# Altium integrated library WE-CNSW SMD Common Mode Line Filter.IntLib: 23 symbols
Pins are listed as number, name and electrical type; pins without a type are passive.

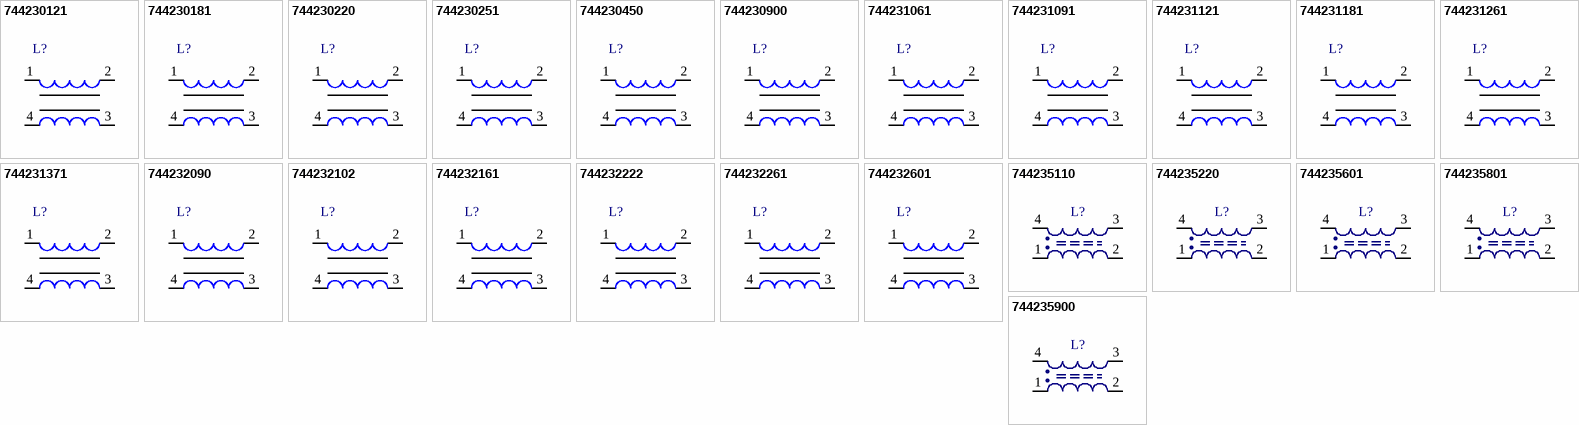
[diagram p0: symbols 744230121 to 744235900]

## 744230121
designator L?
SMD Common Mode Noise Suppressor WE-CNSW,  Z= 120 Ohm; PartNumber: 744230121; Impedance: 90 Ohm; PackageReference: WE-CNSW, 0603; ComponentLink1Description: Manufacturer URL; ComponentLink1URL: http://www.we-online.com; ComponentLink2Description: Datasheet; ComponentLink2URL: http://www.we-online.de/katalog/media/pdf/744230121.pdf
footprint WE-CNSW, 0603 (SMD Inductor, 4-Leads, Body 0.85x1.6mm)
pins: 1, 2, 3, 4

## 744230181
designator L?
SMD Common Mode Noise Suppressor WE-CNSW,  Z= 180 Ohm; PartNumber: 744230181; Impedance: 180 Ohm; PackageReference: WE-CNSW, 0603; ComponentLink1Description: Manufacturer URL; ComponentLink1URL: http://www.we-online.com; ComponentLink2Description: Datasheet; ComponentLink2URL: http://www.we-online.de/katalog/media/pdf/744230181.pdf
footprint WE-CNSW, 0603 (SMD Inductor, 4-Leads, Body 0.85x1.6mm)
pins: 1, 2, 3, 4

## 744230220
designator L?
SMD Common Mode Noise Suppressor WE-CNSW,  Z= 22 Ohm; PartNumber: 744230220; Impedance: 22 Ohm; PackageReference: WE-CNSW, 0603; ComponentLink1Description: Manufacturer URL; ComponentLink1URL: http://www.we-online.com; ComponentLink2Description: Datasheet; ComponentLink2URL: http://www.we-online.de/katalog/media/pdf/744230220.pdf
footprint WE-CNSW, 0603 (SMD Inductor, 4-Leads, Body 0.85x1.6mm)
pins: 1, 2, 3, 4

## 744230251
designator L?
SMD Common Mode Noise Suppressor WE-CNSW,  Z= 250 Ohm; PartNumber: 744230251; Impedance: 250 Ohm; PackageReference: WE-CNSW, 0603; ComponentLink1Description: Manufacturer URL; ComponentLink1URL: http://www.we-online.com; ComponentLink2Description: Datasheet; ComponentLink2URL: http://www.we-online.de/katalog/media/pdf/744230251.pdf
footprint WE-CNSW, 0603 (SMD Inductor, 4-Leads, Body 0.85x1.6mm)
pins: 1, 2, 3, 4

## 744230450
designator L?
SMD Common Mode Noise Suppressor WE-CNSW,  Z= 45 Ohm; PartNumber: 744230450; Impedance: 45 Ohm; PackageReference: WE-CNSW, 0603; ComponentLink1Description: Manufacturer URL; ComponentLink1URL: http://www.we-online.com; ComponentLink2Description: Datasheet; ComponentLink2URL: http://www.we-online.de/katalog/media/pdf/744230450.pdf
footprint WE-CNSW, 0603 (SMD Inductor, 4-Leads, Body 0.85x1.6mm)
pins: 1, 2, 3, 4

## 744230900
designator L?
SMD Common Mode Noise Suppressor WE-CNSW,  Z= 90 Ohm; PartNumber: 744230900; Impedance: 90 Ohm; PackageReference: WE-CNSW, 0603; ComponentLink1Description: Manufacturer URL; ComponentLink1URL: http://www.we-online.com; ComponentLink2Description: Datasheet; ComponentLink2URL: http://www.we-online.de/katalog/media/pdf/744230900.pdf
footprint WE-CNSW, 0603 (SMD Inductor, 4-Leads, Body 0.85x1.6mm)
pins: 1, 2, 3, 4

## 744231061
designator L?
SMD Common Mode Noise Suppressor WE-CNSW, Z = 67 Ohm; PartNumber: 744231061; Impedance: 67 Ohm; DatasheetVersion: ver 4, Nov-2010; PackageReference: WE-CNSW-0805; PackageDescription: SMD Inductor, 4-Leads, Body 1.4 x 2.2 mm; ComponentLink1Description: Manufacturer URL; ComponentLink1URL: http://www.we-online.com; ComponentLink2Description: Datasheet; ComponentLink2URL: http://www.we-online.de/katalog/media/pdf/744231061.pdf; ComponentLink3Description: URL Link2; ComponentLink3URL: WE-CNSW, 1206; ComponentLink4Description: URL Link3; ComponentLink4URL: WE-CNSW, 1206.pcblib
footprint WE-CNSW-0805 (SMD Inductor, 4-Leads, Body 1.4x2.2x1.4 mm)
pins: 1, 2, 3, 4

## 744231091
designator L?
SMD Common Mode Noise Suppressor WE-CNSW, Z = 90 Ohm; PartNumber: 744231091; Impedance: 90 Ohm; DatasheetVersion: ver 4, Nov-2010; PackageReference: WE-CNSW-0805; PackageDescription: SMD Inductor, 4-Leads, Body 1.4 x 2.2 mm; ComponentLink1Description: Manufacturer URL; ComponentLink1URL: http://www.we-online.com; ComponentLink2Description: Datasheet; ComponentLink2URL: http://www.we-online.de/katalog/media/pdf/744231091.pdf; ComponentLink3Description: URL Link2; ComponentLink3URL: WE-CNSW, 1206; ComponentLink4Description: URL Link3; ComponentLink4URL: WE-CNSW, 1206.pcblib
footprint WE-CNSW-0805 (SMD Inductor, 4-Leads, Body 1.4x2.2x1.4 mm)
pins: 1, 2, 3, 4

## 744231121
designator L?
SMD Common Mode Noise Suppressor WE-CNSW, Z = 120 Ohm; PartNumber: 744231121; Impedance: 120 Ohm; DatasheetVersion: ver 4, Nov-2010; PackageReference: WE-CNSW-0805; PackageDescription: SMD Inductor, 4-Leads, Body 1.4 x 2.2 mm; ComponentLink1Description: Manufacturer URL; ComponentLink1URL: http://www.we-online.com; ComponentLink2Description: Datasheet; ComponentLink2URL: http://www.we-online.de/katalog/media/pdf/744231121.pdf; ComponentLink3Description: URL Link2; ComponentLink3URL: WE-CNSW, 1206; ComponentLink4Description: URL Link3; ComponentLink4URL: WE-CNSW, 1206.pcblib
footprint WE-CNSW-0805 (SMD Inductor, 4-Leads, Body 1.4x2.2x1.4 mm)
pins: 1, 2, 3, 4

## 744231181
designator L?
SMD Common Mode Noise Suppressor WE-CNSW, Z = 180 Ohm; PartNumber: 744231181; Impedance: 180 Ohm; DatasheetVersion: ver 4, Nov-2010; PackageReference: WE-CNSW-0805; PackageDescription: SMD Inductor, 4-Leads, Body 1.4 x 2.2 mm; ComponentLink1Description: Manufacturer URL; ComponentLink1URL: http://www.we-online.com; ComponentLink2Description: Datasheet; ComponentLink2URL: http://www.we-online.de/katalog/media/pdf/744231181.pdf; ComponentLink3Description: URL Link2; ComponentLink3URL: WE-CNSW, 1206; ComponentLink4Description: URL Link3; ComponentLink4URL: WE-CNSW, 1206.pcblib
footprint WE-CNSW-0805 (SMD Inductor, 4-Leads, Body 1.4x2.2x1.4 mm)
pins: 1, 2, 3, 4

## 744231261
designator L?
SMD Common Mode Noise Suppressor WE-CNSW, Z = 260 Ohm; PartNumber: 744231261; Impedance: 260 Ohm; DatasheetVersion: ver 4, Nov-2010; PackageReference: WE-CNSW-0805; PackageDescription: SMD Inductor, 4-Leads, Body 1.4 x 2.2 mm; ComponentLink1Description: Manufacturer URL; ComponentLink1URL: http://www.we-online.com; ComponentLink2Description: Datasheet; ComponentLink2URL: http://www.we-online.de/katalog/media/pdf/744231261.pdf; ComponentLink3Description: URL Link2; ComponentLink3URL: WE-CNSW, 1206; ComponentLink4Description: URL Link3; ComponentLink4URL: WE-CNSW, 1206.pcblib
footprint WE-CNSW-0805 (SMD Inductor, 4-Leads, Body 1.4x2.2x1.4 mm)
pins: 1, 2, 3, 4

## 744231371
designator L?
SMD Common Mode Noise Suppressor WE-CNSW, Z = 370 Ohm; PartNumber: 744231371; Impedance: 370 Ohm; DatasheetVersion: ver 4, Nov-2010; PackageReference: WE-CNSW-0805; PackageDescription: SMD Inductor, 4-Leads, Body 1.4 x 2.2 mm; ComponentLink1Description: Manufacturer URL; ComponentLink1URL: http://www.we-online.com; ComponentLink2Description: Datasheet; ComponentLink2URL: http://www.we-online.de/katalog/media/pdf/744231371.pdf; ComponentLink3Description: URL Link2; ComponentLink3URL: WE-CNSW, 1206; ComponentLink4Description: URL Link3; ComponentLink4URL: WE-CNSW, 1206.pcblib
footprint WE-CNSW-0805 (SMD Inductor, 4-Leads, Body 1.4x2.2x1.4 mm)
pins: 1, 2, 3, 4

## 744232090
designator L?
SMD Common Mode Noise Suppressor WE-CNSW, Z = 90 Ohm; PartNumber: 744232090; Impedance: 90 Ohm; DatasheetVersion: ver 3, Oct-2004; PackageReference: WE-CNSW-1206; PackageDescription: SMD Inductor, 4-Leads, Body 1.8 x 3.4 mm; ComponentLink1Description: Manufacturer URL; ComponentLink1URL: http://www.we-online.com; ComponentLink2Description: Datasheet; ComponentLink2URL: http://www.we-online.de/katalog/media/pdf/744232090.pdf; ComponentLink3Description: URL Link2; ComponentLink3URL: WE-CNSW, 0805; ComponentLink4Description: URL Link3; ComponentLink4URL: WE-CNSW, 0805.pcblib
footprint WE-CNSW-1206 (SMD Inductor, 4-Leads, Body 1.8x3.4x2.1 mm)
pins: 1, 2, 3, 4

## 744232102
designator L?
SMD Common Mode Noise Suppressor WE-CNSW, Z = 1000 Ohm; PartNumber: 744232102; DatasheetVersion: ver 3, Oct-2004; PackageReference: WE-CNSW-1206; PackageDescription: SMD Inductor, 4-Leads, Body 1.8 x 3.4 mm; Impedance: 1000 Ohm; ComponentLink1Description: Manufacturer URL; ComponentLink1URL: http://www.we-online.com; ComponentLink2Description: Datasheet; ComponentLink2URL: http://www.we-online.de/katalog/media/pdf/744232102.pdf; ComponentLink3Description: URL Link2; ComponentLink3URL: WE-CNSW, 0805; ComponentLink4Description: URL Link3; ComponentLink4URL: WE-CNSW, 0805.pcblib
footprint WE-CNSW-1206 (SMD Inductor, 4-Leads, Body 1.8x3.4x2.1 mm)
pins: 1, 2, 3, 4

## 744232161
designator L?
SMD Common Mode Noise Suppressor WE-CNSW, Z = 160 Ohm; PartNumber: 744232161; Impedance: 160 Ohm; DatasheetVersion: ver 3, Oct-2004; PackageReference: WE-CNSW-1206; PackageDescription: SMD Inductor, 4-Leads, Body 1.8 x 3.4 mm; ComponentLink1Description: Manufacturer URL; ComponentLink1URL: http://www.we-online.com; ComponentLink2Description: Datasheet; ComponentLink2URL: http://www.we-online.de/katalog/media/pdf/744232161.pdf; ComponentLink3Description: URL Link2; ComponentLink3URL: WE-CNSW, 0805; ComponentLink4Description: URL Link3; ComponentLink4URL: WE-CNSW, 0805.pcblib
footprint WE-CNSW-1206 (SMD Inductor, 4-Leads, Body 1.8x3.4x2.1 mm)
pins: 1, 2, 3, 4

## 744232222
designator L?
SMD Common Mode Noise Suppressor WE-CNSW, Z = 2200 Ohm; PartNumber: 744232222; DatasheetVersion: ver 3, Oct-2004; PackageReference: WE-CNSW-1206; PackageDescription: SMD Inductor, 4-Leads, Body 1.8 x 3.4 mm; Impedance: 2200 Ohm; ComponentLink1Description: Manufacturer URL; ComponentLink1URL: http://www.we-online.com; ComponentLink2Description: Datasheet; ComponentLink2URL: http://www.we-online.de/katalog/media/pdf/744232222.pdf; ComponentLink3Description: URL Link2; ComponentLink3URL: WE-CNSW, 0805; ComponentLink4Description: URL Link3; ComponentLink4URL: WE-CNSW, 0805.pcblib
footprint WE-CNSW-1206 (SMD Inductor, 4-Leads, Body 1.8x3.4x2.1 mm)
pins: 1, 2, 3, 4

## 744232261
designator L?
SMD Common Mode Noise Suppressor WE-CNSW, Z = 260 Ohm; PartNumber: 744232261; Impedance: 260 Ohm; DatasheetVersion: ver 3, Oct-2004; PackageReference: WE-CNSW-1206; PackageDescription: SMD Inductor, 4-Leads, Body 1.8 x 3.4 mm; ComponentLink1Description: Manufacturer URL; ComponentLink1URL: http://www.we-online.com; ComponentLink2Description: Datasheet; ComponentLink2URL: http://www.we-online.de/katalog/media/pdf/744232261.pdf; ComponentLink3Description: URL Link2; ComponentLink3URL: WE-CNSW, 0805; ComponentLink4Description: URL Link3; ComponentLink4URL: WE-CNSW, 0805.pcblib
footprint WE-CNSW-1206 (SMD Inductor, 4-Leads, Body 1.8x3.4x2.1 mm)
pins: 1, 2, 3, 4

## 744232601
designator L?
SMD Common Mode Noise Suppressor WE-CNSW, Z = 600 Ohm; PartNumber: 744232601; Impedance: 600 Ohm; DatasheetVersion: ver 3, Oct-2004; PackageReference: WE-CNSW-1206; PackageDescription: SMD Inductor, 4-Leads, Body 1.8 x 3.4 mm; ComponentLink1Description: Manufacturer URL; ComponentLink1URL: http://www.we-online.com; ComponentLink2Description: Datasheet; ComponentLink2URL: http://www.we-online.de/katalog/media/pdf/744232601.pdf; ComponentLink3Description: URL Link2; ComponentLink3URL: WE-CNSW, 0805; ComponentLink4Description: URL Link3; ComponentLink4URL: WE-CNSW, 0805.pcblib
footprint WE-CNSW-1206 (SMD Inductor, 4-Leads, Body 1.8x3.4x2.1 mm)
pins: 1, 2, 3, 4

## 744235110
designator L?
SMD Shielded Coupled Inductor WE-CNSW, Z=5000 Ohm; PartNumber: 744235110; PackageReference: WE-CNSW 1812; Impedance: 5000 Ohm; ComponentLink1Description: Manufacturer URL; ComponentLink1URL: http://www.we-online.com; ComponentLink2Description: Datasheet; ComponentLink2URL: http://katalog.we-online.de/pbs/datasheet/744235110.pdf
footprint WE-CNSW 1812 (SMD Line Filter, 4-Leads, Body 4.5x3.2mm)
pins: 1, 2, 3, 4

## 744235220
designator L?
SMD Shielded Coupled Inductor WE-CNSW, Z=8000 Ohm; PartNumber: 744235220; PackageReference: WE-CNSW 1812; Impedance: 8000 Ohm; ComponentLink1Description: Manufacturer URL; ComponentLink1URL: http://www.we-online.com; ComponentLink2Description: Datasheet; ComponentLink2URL: http://katalog.we-online.de/pbs/datasheet/744235220.pdf
footprint WE-CNSW 1812 (SMD Line Filter, 4-Leads, Body 4.5x3.2mm)
pins: 1, 2, 3, 4

## 744235601
designator L?
SMD Shielded Coupled Inductor WE-CNSW, Z=600 Ohm; PartNumber: 744235601; Impedance: 600 Ohm; PackageReference: WE-CNSW 1812; ComponentLink1Description: Manufacturer URL; ComponentLink1URL: http://www.we-online.com; ComponentLink2Description: Datasheet; ComponentLink2URL: http://katalog.we-online.de/pbs/datasheet/744235601.pdf
footprint WE-CNSW 1812 (SMD Line Filter, 4-Leads, Body 4.5x3.2mm)
pins: 1, 2, 3, 4

## 744235801
designator L?
SMD Shielded Coupled Inductor WE-CNSW, Z=800 Ohm; PartNumber: 744235801; Impedance: 800 Ohm; PackageReference: WE-CNSW 1812; ComponentLink1Description: Manufacturer URL; ComponentLink1URL: http://www.we-online.com; ComponentLink2Description: Datasheet; ComponentLink2URL: http://katalog.we-online.de/pbs/datasheet/744235801.pdf
footprint WE-CNSW 1812 (SMD Line Filter, 4-Leads, Body 4.5x3.2mm)
pins: 1, 2, 3, 4

## 744235900
designator L?
SMD Shielded Coupled Inductor WE-CNSW, Z=90 Ohm; PartNumber: 744235900; Impedance: 90 Ohm; PackageReference: WE-CNSW 1812; ComponentLink1Description: Manufacturer URL; ComponentLink1URL: http://www.we-online.com; ComponentLink2Description: Datasheet; ComponentLink2URL: http://katalog.we-online.de/pbs/datasheet/744235900.pdf
footprint WE-CNSW 1812 (SMD Line Filter, 4-Leads, Body 4.5x3.2mm)
pins: 1, 2, 3, 4